# Altium integrated library TI Power Management Lighting and Display.IntLib: 745 symbols (part 28 of 48)
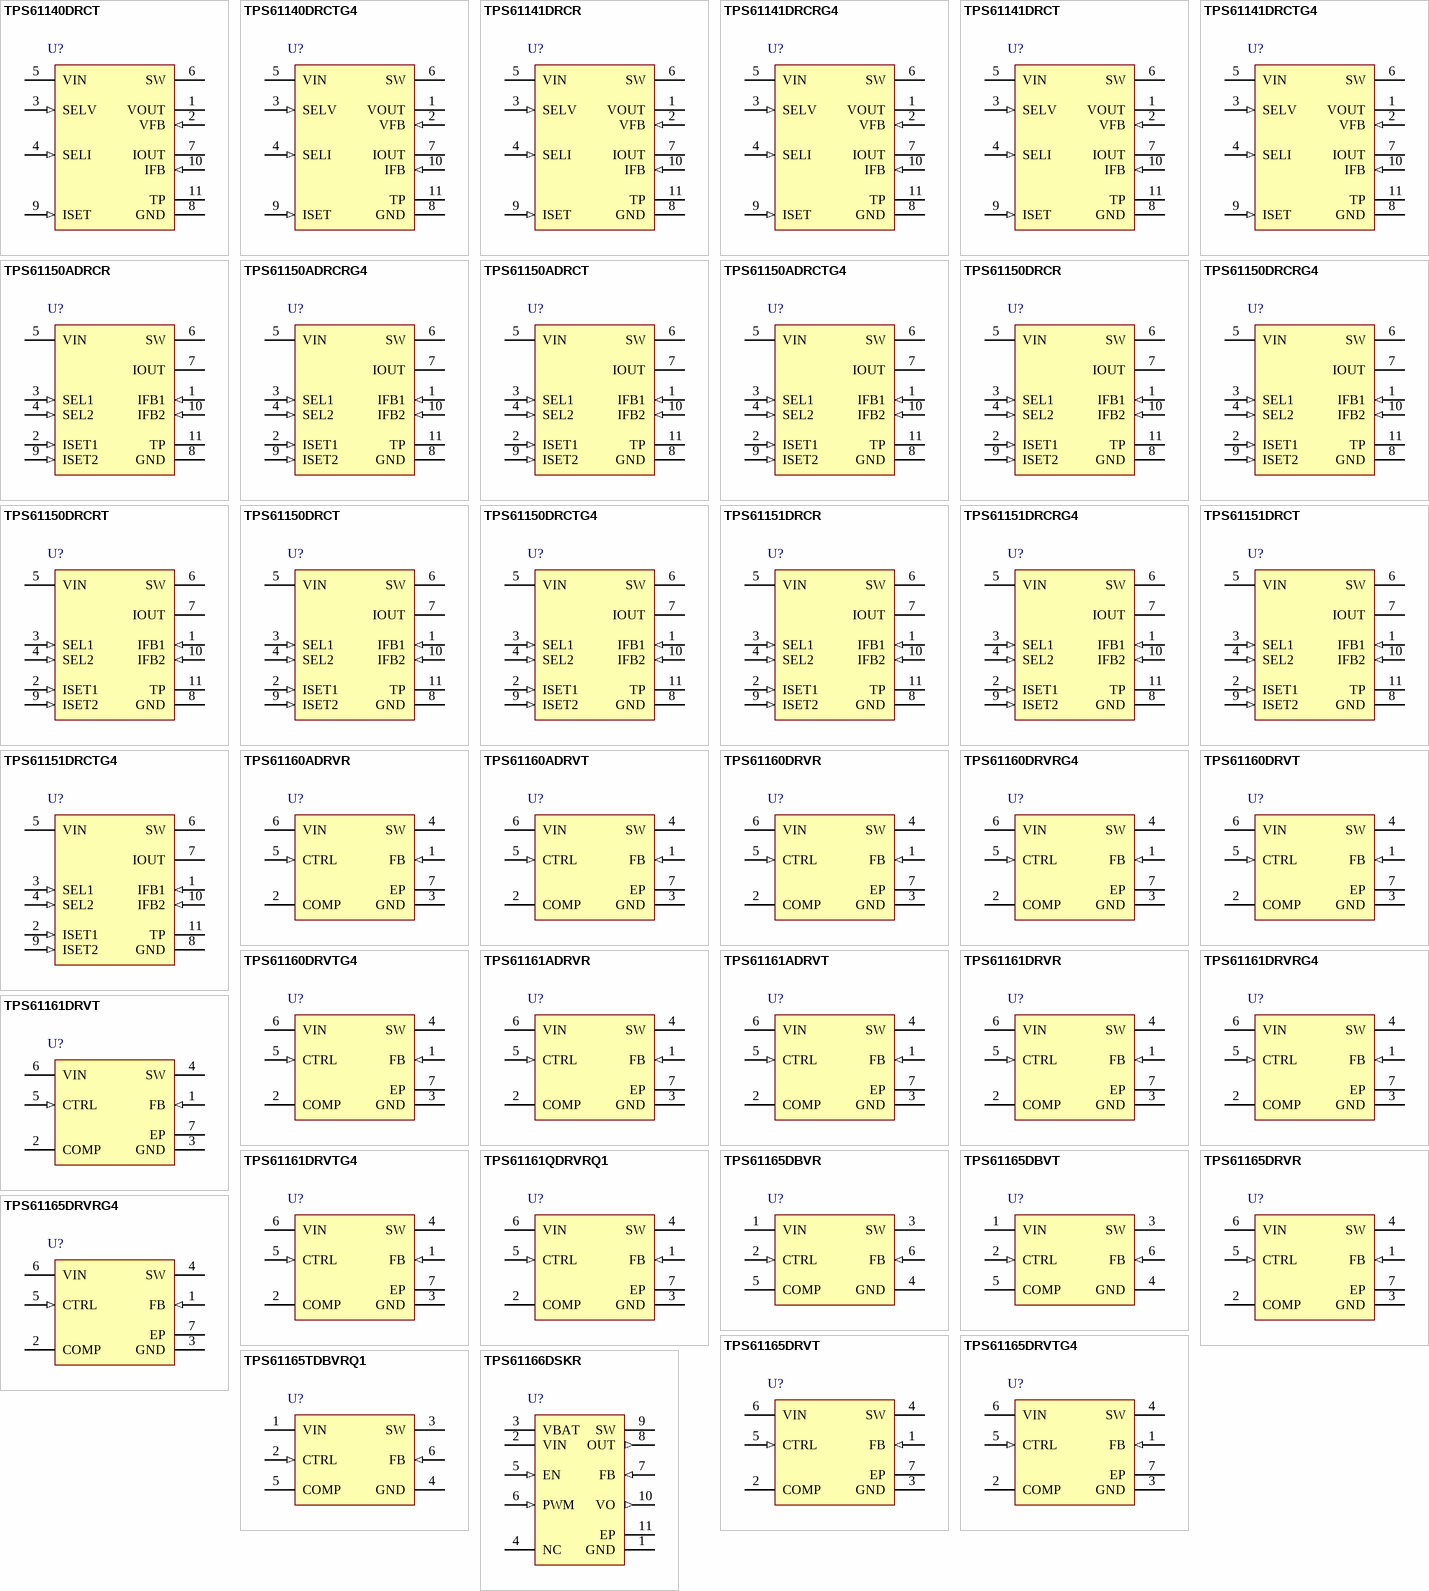
[diagram p58: symbols TPS61140DRCT to TPS61166DSKR]

## TPS61150DRCRT
designator U?
Dual Output Boost Regulator with Single Inductor, 2.5 to 6 V, -40 to 85 degC, 10-pin SON (DRC10); Manufacturer: Texas Instruments; PartNumber: TPS61150DRCRT; Iout(Max)(A): 0.035; Iq(Typ)(mA): 2; Rating: Catalog; SubFamily: White LED Driver; Switching Frequency(Max)(kHz): 1200; Synchronous Rectification: TRUE; Vin(Max)(V): 6; Vin(Min)(V): 2.5; DatasheetVersion: SLVS625D; PackageVersion: 4204102-3/L; PackageReference: DRC10-2400X1650TP; PackageDescription: 10-Pin Plastic Small Outline, Body 3 x 3 mm, Pitch 0.5 mm; Supplier 1: Mouser; Supplier Part Number 1: N/A; Topology: Boost; Mounting Technology: Surface Mount; ComponentLink1Description: Manufacturer URL; ComponentLink1URL: http://www.ti.com/; ComponentLink2Description: Datasheet; ComponentLink2URL: http://www.ti.com/general/docs/lit/getliterature.tsp?genericPartNumber=TPS61150&fileType=pdf; ComponentLink3Description: Package Specification; ComponentLink3URL: http://www.ti.com/litv/pdf/mpds117k
footprint TI-DRC10-2400X1650TP_V (SON, 10-Leads, Body 3x3mm, Pitch 0.5mm, Thermal Pad 3x1.65mm)
pins: 1 IFB1 (in) "The return path for the Iout regulation. Current regulator is connected to this pin, and it can be disabled to open the current path.", 2 ISET1 (in) "Output current programming pin. The resistor connected to the pin programs its corresponding output current.", 3 SEL1 (in) "Mode selection pins. See Table 1 for details.", 4 SEL2 (in) "Mode selection pins. See Table 1 for details.", 5 VIN (power) "The input pin to the IC. It provides the current to the boost power stage, and also powers the IC circuit. When Vin is below the undervoltage lockout threshold, the IC turns off and disables outputs; thereby disconnecting (See Datasheet)", 6 SW (power) "This is the switching node of the IC.", 7 IOUT (power) "The output of the constant current supply. It is directly connected to the boost converter output.", 8 GND (power) "The ground of the IC. Connect the input and output capacitors very close to this pin.", 9 ISET2 (in) "Output current programming pin. The resistor connected to the pin programs its corresponding output current.", 10 IFB2 (in) "The return path for the Iout regulation. Current regulator is connected to this pin, and it can be disabled to open the current path.", 11 TP (power) "The thermal pad should be soldered to the analog ground. If possible, use thermal via to connect to ground plane for ideal power dissipation."

## TPS61150DRCT
designator U?
Dual Output Boost Regulator with Single Inductor, 2.5 to 6 V, -40 to 85 degC, 10-pin SON (DRC10), Green (RoHS & no Sb/Br); Manufacturer: Texas Instruments; PartNumber: TPS61150DRCT; Iout(Max)(A): 0.035; Iq(Typ)(mA): 2; Rating: Catalog; SubFamily: White LED Driver; Switching Frequency(Max)(kHz): 1200; Synchronous Rectification: TRUE; Vin(Max)(V): 6; Vin(Min)(V): 2.5; DatasheetVersion: SLVS625D; PackageVersion: 4204102-3/L; PackageReference: DRC10-2400X1650TP; PackageDescription: 10-Pin Plastic Small Outline, Body 3 x 3 mm, Pitch 0.5 mm; Supplier 1: Digi-Key; Supplier Part Number 1: TPS61150DRCT-ND; Supplier 2: Newark; Supplier Part Number 2: 80K6170; Supplier 3: Mouser; Supplier Part Number 3: 595-TPS61150DRCT; Eco-Plan: Green (RoHS & no Sb/Br); Topology: Boost; Mounting Technology: Surface Mount; ComponentLink1Description: Manufacturer URL; ComponentLink1URL: http://www.ti.com/; ComponentLink2Description: Datasheet; ComponentLink2URL: http://www.ti.com/general/docs/lit/getliterature.tsp?genericPartNumber=TPS61150&fileType=pdf; ComponentLink3Description: Package Specification; ComponentLink3URL: http://www.ti.com/litv/pdf/mpds117k
footprint TI-DRC10-2400X1650TP_V (SON, 10-Leads, Body 3x3mm, Pitch 0.5mm, Thermal Pad 3x1.65mm)
pins: 1 IFB1 (in) "The return path for the Iout regulation. Current regulator is connected to this pin, and it can be disabled to open the current path.", 2 ISET1 (in) "Output current programming pin. The resistor connected to the pin programs its corresponding output current.", 3 SEL1 (in) "Mode selection pins. See Table 1 for details.", 4 SEL2 (in) "Mode selection pins. See Table 1 for details.", 5 VIN (power) "The input pin to the IC. It provides the current to the boost power stage, and also powers the IC circuit. When Vin is below the undervoltage lockout threshold, the IC turns off and disables outputs; thereby disconnecting (See Datasheet)", 6 SW (power) "This is the switching node of the IC.", 7 IOUT (power) "The output of the constant current supply. It is directly connected to the boost converter output.", 8 GND (power) "The ground of the IC. Connect the input and output capacitors very close to this pin.", 9 ISET2 (in) "Output current programming pin. The resistor connected to the pin programs its corresponding output current.", 10 IFB2 (in) "The return path for the Iout regulation. Current regulator is connected to this pin, and it can be disabled to open the current path.", 11 TP (power) "The thermal pad should be soldered to the analog ground. If possible, use thermal via to connect to ground plane for ideal power dissipation."

## TPS61150DRCTG4
designator U?
Dual Output Boost Regulator with Single Inductor, 2.5 to 6 V, -40 to 85 degC, 10-pin SON (DRC10), Green (RoHS & no Sb/Br); Manufacturer: Texas Instruments; PartNumber: TPS61150DRCTG4; Iout(Max)(A): 0.035; Iq(Typ)(mA): 2; Rating: Catalog; SubFamily: White LED Driver; Switching Frequency(Max)(kHz): 1200; Synchronous Rectification: TRUE; Vin(Max)(V): 6; Vin(Min)(V): 2.5; DatasheetVersion: SLVS625D; PackageVersion: 4204102-3/L; PackageReference: DRC10-2400X1650TP; PackageDescription: 10-Pin Plastic Small Outline, Body 3 x 3 mm, Pitch 0.5 mm; Supplier 1: Digi-Key; Supplier Part Number 1: TPS61150DRCTG4-ND; Supplier 2: Mouser; Supplier Part Number 2: 595-TPS61150DRCTG4; Eco-Plan: Green (RoHS & no Sb/Br); Topology: Boost; Mounting Technology: Surface Mount; ComponentLink1Description: Manufacturer URL; ComponentLink1URL: http://www.ti.com/; ComponentLink2Description: Datasheet; ComponentLink2URL: http://www.ti.com/general/docs/lit/getliterature.tsp?genericPartNumber=TPS61150&fileType=pdf; ComponentLink3Description: Package Specification; ComponentLink3URL: http://www.ti.com/litv/pdf/mpds117k
footprint TI-DRC10-2400X1650TP_V (SON, 10-Leads, Body 3x3mm, Pitch 0.5mm, Thermal Pad 3x1.65mm)
pins: 1 IFB1 (in) "The return path for the Iout regulation. Current regulator is connected to this pin, and it can be disabled to open the current path.", 2 ISET1 (in) "Output current programming pin. The resistor connected to the pin programs its corresponding output current.", 3 SEL1 (in) "Mode selection pins. See Table 1 for details.", 4 SEL2 (in) "Mode selection pins. See Table 1 for details.", 5 VIN (power) "The input pin to the IC. It provides the current to the boost power stage, and also powers the IC circuit. When Vin is below the undervoltage lockout threshold, the IC turns off and disables outputs; thereby disconnecting (See Datasheet)", 6 SW (power) "This is the switching node of the IC.", 7 IOUT (power) "The output of the constant current supply. It is directly connected to the boost converter output.", 8 GND (power) "The ground of the IC. Connect the input and output capacitors very close to this pin.", 9 ISET2 (in) "Output current programming pin. The resistor connected to the pin programs its corresponding output current.", 10 IFB2 (in) "The return path for the Iout regulation. Current regulator is connected to this pin, and it can be disabled to open the current path.", 11 TP (power) "The thermal pad should be soldered to the analog ground. If possible, use thermal via to connect to ground plane for ideal power dissipation."

## TPS61151DRCR
designator U?
Dual Output Boost Regulator with Single Inductor, 2.5 to 6 V, -40 to 85 degC, 10-pin SON (DRC10), Green (RoHS & no Sb/Br); Manufacturer: Texas Instruments; PartNumber: TPS61151DRCR; Iout(Max)(A): 0.035; Iq(Typ)(mA): 2; Rating: Catalog; SubFamily: White LED Driver; Switching Frequency(Max)(kHz): 1200; Synchronous Rectification: TRUE; Vin(Max)(V): 6; Vin(Min)(V): 3; DatasheetVersion: SLVS625D; PackageVersion: 4204102-3/L; PackageReference: DRC10-2400X1650TP; PackageDescription: 10-Pin Plastic Small Outline, Body 3 x 3 mm, Pitch 0.5 mm; Supplier 1: Digi-Key; Supplier Part Number 1: 296-21162-2-ND; Supplier 2: Digi-Key; Supplier Part Number 2: 296-21162-1-ND; Supplier 3: Digi-Key; Supplier Part Number 3: 296-21162-6-ND; Supplier 4: Mouser; Supplier Part Number 4: 595-TPS61151DRCR; Eco-Plan: Green (RoHS & no Sb/Br); Topology: Boost; Mounting Technology: Surface Mount; ComponentLink1Description: Manufacturer URL; ComponentLink1URL: http://www.ti.com/; ComponentLink2Description: Datasheet; ComponentLink2URL: http://www.ti.com/general/docs/lit/getliterature.tsp?genericPartNumber=TPS61151&fileType=pdf; ComponentLink3Description: Package Specification; ComponentLink3URL: http://www.ti.com/litv/pdf/mpds117k
footprint TI-DRC10-2400X1650TP_V (SON, 10-Leads, Body 3x3mm, Pitch 0.5mm, Thermal Pad 3x1.65mm)
pins: 1 IFB1 (in) "The return path for the Iout regulation. Current regulator is connected to this pin, and it can be disabled to open the current path.", 2 ISET1 (in) "Output current programming pin. The resistor connected to the pin programs its corresponding output current.", 3 SEL1 (in) "Mode selection pins. See Table 1 for details.", 4 SEL2 (in) "Mode selection pins. See Table 1 for details.", 5 VIN (power) "The input pin to the IC. It provides the current to the boost power stage, and also powers the IC circuit. When Vin is below the undervoltage lockout threshold, the IC turns off and disables outputs; thereby disconnecting (See Datasheet)", 6 SW (power) "This is the switching node of the IC.", 7 IOUT (power) "The output of the constant current supply. It is directly connected to the boost converter output.", 8 GND (power) "The ground of the IC. Connect the input and output capacitors very close to this pin.", 9 ISET2 (in) "Output current programming pin. The resistor connected to the pin programs its corresponding output current.", 10 IFB2 (in) "The return path for the Iout regulation. Current regulator is connected to this pin, and it can be disabled to open the current path.", 11 TP (power) "The thermal pad should be soldered to the analog ground. If possible, use thermal via to connect to ground plane for ideal power dissipation."

## TPS61151DRCRG4
designator U?
Dual Output Boost Regulator with Single Inductor, 2.5 to 6 V, -40 to 85 degC, 10-pin SON (DRC10), Green (RoHS & no Sb/Br); Manufacturer: Texas Instruments; PartNumber: TPS61151DRCRG4; Iout(Max)(A): 0.035; Iq(Typ)(mA): 2; Rating: Catalog; SubFamily: White LED Driver; Switching Frequency(Max)(kHz): 1200; Synchronous Rectification: TRUE; Vin(Max)(V): 6; Vin(Min)(V): 3; DatasheetVersion: SLVS625D; PackageVersion: 4204102-3/L; PackageReference: DRC10-2400X1650TP; PackageDescription: 10-Pin Plastic Small Outline, Body 3 x 3 mm, Pitch 0.5 mm; Supplier 1: Digi-Key; Supplier Part Number 1: TPS61151DRCRG4-ND; Supplier 2: Mouser; Supplier Part Number 2: 595-TPS61151DRCRG4; Eco-Plan: Green (RoHS & no Sb/Br); Topology: Boost; Mounting Technology: Surface Mount; ComponentLink1Description: Manufacturer URL; ComponentLink1URL: http://www.ti.com/; ComponentLink2Description: Datasheet; ComponentLink2URL: http://www.ti.com/general/docs/lit/getliterature.tsp?genericPartNumber=TPS61151&fileType=pdf; ComponentLink3Description: Package Specification; ComponentLink3URL: http://www.ti.com/litv/pdf/mpds117k
footprint TI-DRC10-2400X1650TP_V (SON, 10-Leads, Body 3x3mm, Pitch 0.5mm, Thermal Pad 3x1.65mm)
pins: 1 IFB1 (in) "The return path for the Iout regulation. Current regulator is connected to this pin, and it can be disabled to open the current path.", 2 ISET1 (in) "Output current programming pin. The resistor connected to the pin programs its corresponding output current.", 3 SEL1 (in) "Mode selection pins. See Table 1 for details.", 4 SEL2 (in) "Mode selection pins. See Table 1 for details.", 5 VIN (power) "The input pin to the IC. It provides the current to the boost power stage, and also powers the IC circuit. When Vin is below the undervoltage lockout threshold, the IC turns off and disables outputs; thereby disconnecting (See Datasheet)", 6 SW (power) "This is the switching node of the IC.", 7 IOUT (power) "The output of the constant current supply. It is directly connected to the boost converter output.", 8 GND (power) "The ground of the IC. Connect the input and output capacitors very close to this pin.", 9 ISET2 (in) "Output current programming pin. The resistor connected to the pin programs its corresponding output current.", 10 IFB2 (in) "The return path for the Iout regulation. Current regulator is connected to this pin, and it can be disabled to open the current path.", 11 TP (power) "The thermal pad should be soldered to the analog ground. If possible, use thermal via to connect to ground plane for ideal power dissipation."

## TPS61151DRCT
designator U?
Dual Output Boost Regulator with Single Inductor, 2.5 to 6 V, -40 to 85 degC, 10-pin SON (DRC10), Green (RoHS & no Sb/Br); Manufacturer: Texas Instruments; PartNumber: TPS61151DRCT; Iout(Max)(A): 0.035; Iq(Typ)(mA): 2; Rating: Catalog; SubFamily: White LED Driver; Switching Frequency(Max)(kHz): 1200; Synchronous Rectification: TRUE; Vin(Max)(V): 6; Vin(Min)(V): 3; DatasheetVersion: SLVS625D; PackageVersion: 4204102-3/L; PackageReference: DRC10-2400X1650TP; PackageDescription: 10-Pin Plastic Small Outline, Body 3 x 3 mm, Pitch 0.5 mm; Supplier 1: Digi-Key; Supplier Part Number 1: TPS61151DRCT-ND; Supplier 2: Newark; Supplier Part Number 2: 80K3416; Supplier 3: Mouser; Supplier Part Number 3: 595-TPS61151DRCT; Eco-Plan: Green (RoHS & no Sb/Br); Topology: Boost; Mounting Technology: Surface Mount; ComponentLink1Description: Manufacturer URL; ComponentLink1URL: http://www.ti.com/; ComponentLink2Description: Datasheet; ComponentLink2URL: http://www.ti.com/general/docs/lit/getliterature.tsp?genericPartNumber=TPS61151&fileType=pdf; ComponentLink3Description: Package Specification; ComponentLink3URL: http://www.ti.com/litv/pdf/mpds117k
footprint TI-DRC10-2400X1650TP_V (SON, 10-Leads, Body 3x3mm, Pitch 0.5mm, Thermal Pad 3x1.65mm)
pins: 1 IFB1 (in) "The return path for the Iout regulation. Current regulator is connected to this pin, and it can be disabled to open the current path.", 2 ISET1 (in) "Output current programming pin. The resistor connected to the pin programs its corresponding output current.", 3 SEL1 (in) "Mode selection pins. See Table 1 for details.", 4 SEL2 (in) "Mode selection pins. See Table 1 for details.", 5 VIN (power) "The input pin to the IC. It provides the current to the boost power stage, and also powers the IC circuit. When Vin is below the undervoltage lockout threshold, the IC turns off and disables outputs; thereby disconnecting (See Datasheet)", 6 SW (power) "This is the switching node of the IC.", 7 IOUT (power) "The output of the constant current supply. It is directly connected to the boost converter output.", 8 GND (power) "The ground of the IC. Connect the input and output capacitors very close to this pin.", 9 ISET2 (in) "Output current programming pin. The resistor connected to the pin programs its corresponding output current.", 10 IFB2 (in) "The return path for the Iout regulation. Current regulator is connected to this pin, and it can be disabled to open the current path.", 11 TP (power) "The thermal pad should be soldered to the analog ground. If possible, use thermal via to connect to ground plane for ideal power dissipation."

## TPS61151DRCTG4
designator U?
Dual Output Boost Regulator with Single Inductor, 2.5 to 6 V, -40 to 85 degC, 10-pin SON (DRC10), Green (RoHS & no Sb/Br); Manufacturer: Texas Instruments; PartNumber: TPS61151DRCTG4; Iout(Max)(A): 0.035; Iq(Typ)(mA): 2; Rating: Catalog; SubFamily: White LED Driver; Switching Frequency(Max)(kHz): 1200; Synchronous Rectification: TRUE; Vin(Max)(V): 6; Vin(Min)(V): 3; DatasheetVersion: SLVS625D; PackageVersion: 4204102-3/L; PackageReference: DRC10-2400X1650TP; PackageDescription: 10-Pin Plastic Small Outline, Body 3 x 3 mm, Pitch 0.5 mm; Supplier 1: Digi-Key; Supplier Part Number 1: TPS61151DRCTG4-ND; Supplier 2: Mouser; Supplier Part Number 2: 595-TPS61151DRCTG4; Eco-Plan: Green (RoHS & no Sb/Br); Topology: Boost; Mounting Technology: Surface Mount; ComponentLink1Description: Manufacturer URL; ComponentLink1URL: http://www.ti.com/; ComponentLink2Description: Datasheet; ComponentLink2URL: http://www.ti.com/general/docs/lit/getliterature.tsp?genericPartNumber=TPS61151&fileType=pdf; ComponentLink3Description: Package Specification; ComponentLink3URL: http://www.ti.com/litv/pdf/mpds117k
footprint TI-DRC10-2400X1650TP_V (SON, 10-Leads, Body 3x3mm, Pitch 0.5mm, Thermal Pad 3x1.65mm)
pins: 1 IFB1 (in) "The return path for the Iout regulation. Current regulator is connected to this pin, and it can be disabled to open the current path.", 2 ISET1 (in) "Output current programming pin. The resistor connected to the pin programs its corresponding output current.", 3 SEL1 (in) "Mode selection pins. See Table 1 for details.", 4 SEL2 (in) "Mode selection pins. See Table 1 for details.", 5 VIN (power) "The input pin to the IC. It provides the current to the boost power stage, and also powers the IC circuit. When Vin is below the undervoltage lockout threshold, the IC turns off and disables outputs; thereby disconnecting (See Datasheet)", 6 SW (power) "This is the switching node of the IC.", 7 IOUT (power) "The output of the constant current supply. It is directly connected to the boost converter output.", 8 GND (power) "The ground of the IC. Connect the input and output capacitors very close to this pin.", 9 ISET2 (in) "Output current programming pin. The resistor connected to the pin programs its corresponding output current.", 10 IFB2 (in) "The return path for the Iout regulation. Current regulator is connected to this pin, and it can be disabled to open the current path.", 11 TP (power) "The thermal pad should be soldered to the analog ground. If possible, use thermal via to connect to ground plane for ideal power dissipation."

## TPS61160ADRVR
designator U?
White LED Driver with PWM Brightness Control, 2.7 to 18 V, -40 to 85 degC, 6-pin SON (DRV6), Green (RoHS & no Sb/Br); Manufacturer: Texas Instruments; PartNumber: TPS61160ADRVR; Dimming: TRUE; Iq(Typ)(mA): 1.5; Rating: Catalog; Switching Frequency(Max)(kHz): 600; Topology: Boost; Vin(Max)(V): 18; Vin(Min)(V): 2.7; DatasheetVersion: SLVS937A; PackageVersion: 4206925/E; PackageReference: DRV6-1600X1000TP; PackageDescription: 6-Pin Plastic Small Outline No-Lead, Body 2 x 2 mm, Pitch 0.65 mm; Supplier 1: Digi-Key; Supplier Part Number 1: 296-24308-2-ND; Supplier 2: Digi-Key; Supplier Part Number 2: 296-24308-1-ND; Supplier 3: Digi-Key; Supplier Part Number 3: 296-24308-6-ND; Supplier 4: Newark; Supplier Part Number 4: 09R6662; Supplier 5: Mouser; Supplier Part Number 5: 595-TPS61160ADRVR; Eco-Plan: Green (RoHS & no Sb/Br); SubFamily: White LED Driver; Synchronous Rectification: TRUE; Mounting Technology: Surface Mount; ComponentLink1Description: Manufacturer URL; ComponentLink1URL: http://www.ti.com/; ComponentLink2Description: Datasheet; ComponentLink2URL: http://www.ti.com/general/docs/lit/getliterature.tsp?genericPartNumber=TPS61160A&fileType=pdf; ComponentLink3Description: Package Specification; ComponentLink3URL: http://www.ti.com/litv/pdf/mpds216d
footprint TI-DRV6-1600X1000TP_V (SON, 6-Leads, Body 2x2mm, Pitch 0.65mm, Thermal Pad 1X1.6mm)
pins: 1 FB (in) "Feedback pin for current. Connect the sense resistor from FB to GND.", 2 COMP "Output of the transconductance error amplifier. Connect an external capacitor to this pin to compensate the regulator.", 3 GND (power) "Ground", 4 SW (power) "This is the switching node of the IC. Connect the inductor between the VIN and SW pin. This pin is also used to sense the output voltage for open LED protection", 5 CTRL (in) "Control pin of the boost regulator. Enable and disable IC. PWM signal can be applied to the pin for LED brightness dimming as well.", 6 VIN (power) "The input supply pin for the IC. Connect VIN to a supply voltage between 2.7V and 18V.", 7 EP (power) "The thermal pad should be soldered to the analog ground plane. If possible, use thermal via to connect to ground plane for ideal power dissipation."

## TPS61160ADRVT
designator U?
White LED Driver with PWM Brightness Control, 2.7 to 18 V, -40 to 85 degC, 6-pin SON (DRV6), Green (RoHS & no Sb/Br); Manufacturer: Texas Instruments; PartNumber: TPS61160ADRVT; Dimming: TRUE; Iq(Typ)(mA): 1.5; Rating: Catalog; Switching Frequency(Max)(kHz): 600; Topology: Boost; Vin(Max)(V): 18; Vin(Min)(V): 2.7; DatasheetVersion: SLVS937A; PackageVersion: 4206925/E; PackageReference: DRV6-1600X1000TP; PackageDescription: 6-Pin Plastic Small Outline No-Lead, Body 2 x 2 mm, Pitch 0.65 mm; Supplier 1: Digi-Key; Supplier Part Number 1: 296-32500-2-ND; Supplier 2: Digi-Key; Supplier Part Number 2: 296-32500-1-ND; Supplier 3: Digi-Key; Supplier Part Number 3: 296-32500-6-ND; Supplier 4: Farnell; Supplier Part Number 4: 1735593; Supplier 5: Farnell; Supplier Part Number 5: 1735593RL; Supplier 6: Newark; Supplier Part Number 6: 05R5228; Supplier 7: Mouser; Supplier Part Number 7: 595-TPS61160ADRVT; Eco-Plan: Green (RoHS & no Sb/Br); SubFamily: White LED Driver; Synchronous Rectification: TRUE; Mounting Technology: Surface Mount; ComponentLink1Description: Manufacturer URL; ComponentLink1URL: http://www.ti.com/; ComponentLink2Description: Datasheet; ComponentLink2URL: http://www.ti.com/general/docs/lit/getliterature.tsp?genericPartNumber=TPS61160A&fileType=pdf; ComponentLink3Description: Package Specification; ComponentLink3URL: http://www.ti.com/litv/pdf/mpds216d
footprint TI-DRV6-1600X1000TP_V (SON, 6-Leads, Body 2x2mm, Pitch 0.65mm, Thermal Pad 1X1.6mm)
pins: 1 FB (in) "Feedback pin for current. Connect the sense resistor from FB to GND.", 2 COMP "Output of the transconductance error amplifier. Connect an external capacitor to this pin to compensate the regulator.", 3 GND (power) "Ground", 4 SW (power) "This is the switching node of the IC. Connect the inductor between the VIN and SW pin. This pin is also used to sense the output voltage for open LED protection", 5 CTRL (in) "Control pin of the boost regulator. Enable and disable IC. PWM signal can be applied to the pin for LED brightness dimming as well.", 6 VIN (power) "The input supply pin for the IC. Connect VIN to a supply voltage between 2.7V and 18V.", 7 EP (power) "The thermal pad should be soldered to the analog ground plane. If possible, use thermal via to connect to ground plane for ideal power dissipation."

## TPS61160DRVR
designator U?
White LED Driver with Digital and PWM Brightness Control, 2.7 to 18 V, -40 to 85 degC, 6-pin SON (DRV6), Green (RoHS & no Sb/Br); Manufacturer: Texas Instruments; PartNumber: TPS61160DRVR; Dimming: TRUE; Iq(Typ)(mA): 1.5; Rating: Catalog; Switching Frequency(Max)(kHz): 600; Topology: Boost; Vin(Max)(V): 18; Vin(Min)(V): 2.7; DatasheetVersion: SLVS791C; PackageVersion: 4206925/E; PackageReference: DRV6-1600X1000TP; PackageDescription: 6-Pin Plastic Small Outline No-Lead, Body 2 x 2 mm, Pitch 0.65 mm; Supplier 1: Digi-Key; Supplier Part Number 1: 296-22942-2-ND; Supplier 2: Digi-Key; Supplier Part Number 2: 296-22942-1-ND; Supplier 3: Digi-Key; Supplier Part Number 3: 296-22942-6-ND; Supplier 4: Newark; Supplier Part Number 4: 65M6335; Supplier 5: Mouser; Supplier Part Number 5: 595-TPS61160DRVR; Eco-Plan: Green (RoHS & no Sb/Br); SubFamily: White LED Driver; Synchronous Rectification: TRUE; Mounting Technology: Surface Mount; ComponentLink1Description: Manufacturer URL; ComponentLink1URL: http://www.ti.com/; ComponentLink2Description: Datasheet; ComponentLink2URL: http://www.ti.com/general/docs/lit/getliterature.tsp?genericPartNumber=TPS61160&fileType=pdf; ComponentLink3Description: Package Specification; ComponentLink3URL: http://www.ti.com/litv/pdf/mpds216d
footprint TI-DRV6-1600X1000TP_V (SON, 6-Leads, Body 2x2mm, Pitch 0.65mm, Thermal Pad 1X1.6mm)
pins: 1 FB (in) "Feedback pin for current. Connect the sense resistor from FB to GND.", 2 COMP "Output of the transconductance error amplifier. Connect an external capacitor to this pin to compensate the regulator.", 3 GND (power) "Ground", 4 SW (power) "This is the switching node of the IC. Connect the inductor between the VIN and SW pin. This pin is also used to sense the output voltage for open LED protection", 5 CTRL (in) "Control pin of the boost regulator. Enable and disable IC. PWM signal can be applied to the pin for LED brightness dimming as well.", 6 VIN (power) "The input supply pin for the IC. Connect VIN to a supply voltage between 2.7V and 18V.", 7 EP (power) "The thermal pad should be soldered to the analog ground plane. If possible, use thermal via to connect to ground plane for ideal power dissipation."

## TPS61160DRVRG4
designator U?
White LED Driver with Digital and PWM Brightness Control, 2.7 to 18 V, -40 to 85 degC, 6-pin SON (DRV6), Green (RoHS & no Sb/Br); Manufacturer: Texas Instruments; PartNumber: TPS61160DRVRG4; Dimming: TRUE; Iq(Typ)(mA): 1.5; Rating: Catalog; Switching Frequency(Max)(kHz): 600; Topology: Boost; Vin(Max)(V): 18; Vin(Min)(V): 2.7; DatasheetVersion: SLVS791C; PackageVersion: 4206925/E; PackageReference: DRV6-1600X1000TP; PackageDescription: 6-Pin Plastic Small Outline No-Lead, Body 2 x 2 mm, Pitch 0.65 mm; Supplier 1: Digi-Key; Supplier Part Number 1: TPS61160DRVRG4-ND; Supplier 2: Mouser; Supplier Part Number 2: 595-TPS61160DRVRG4; Eco-Plan: Green (RoHS & no Sb/Br); SubFamily: White LED Driver; Synchronous Rectification: TRUE; Mounting Technology: Surface Mount; ComponentLink1Description: Manufacturer URL; ComponentLink1URL: http://www.ti.com/; ComponentLink2Description: Datasheet; ComponentLink2URL: http://www.ti.com/general/docs/lit/getliterature.tsp?genericPartNumber=TPS61160&fileType=pdf; ComponentLink3Description: Package Specification; ComponentLink3URL: http://www.ti.com/litv/pdf/mpds216d
footprint TI-DRV6-1600X1000TP_V (SON, 6-Leads, Body 2x2mm, Pitch 0.65mm, Thermal Pad 1X1.6mm)
pins: 1 FB (in) "Feedback pin for current. Connect the sense resistor from FB to GND.", 2 COMP "Output of the transconductance error amplifier. Connect an external capacitor to this pin to compensate the regulator.", 3 GND (power) "Ground", 4 SW (power) "This is the switching node of the IC. Connect the inductor between the VIN and SW pin. This pin is also used to sense the output voltage for open LED protection", 5 CTRL (in) "Control pin of the boost regulator. Enable and disable IC. PWM signal can be applied to the pin for LED brightness dimming as well.", 6 VIN (power) "The input supply pin for the IC. Connect VIN to a supply voltage between 2.7V and 18V.", 7 EP (power) "The thermal pad should be soldered to the analog ground plane. If possible, use thermal via to connect to ground plane for ideal power dissipation."

## TPS61160DRVT
designator U?
White LED Driver with Digital and PWM Brightness Control, 2.7 to 18 V, -40 to 85 degC, 6-pin SON (DRV6), Green (RoHS & no Sb/Br); Manufacturer: Texas Instruments; PartNumber: TPS61160DRVT; Dimming: TRUE; Iq(Typ)(mA): 1.5; Rating: Catalog; Switching Frequency(Max)(kHz): 600; Topology: Boost; Vin(Max)(V): 18; Vin(Min)(V): 2.7; DatasheetVersion: SLVS791C; PackageVersion: 4206925/E; PackageReference: DRV6-1600X1000TP; PackageDescription: 6-Pin Plastic Small Outline No-Lead, Body 2 x 2 mm, Pitch 0.65 mm; Supplier 1: Digi-Key; Supplier Part Number 1: 296-27013-2-ND; Supplier 2: Digi-Key; Supplier Part Number 2: 296-27013-1-ND; Supplier 3: Digi-Key; Supplier Part Number 3: 296-27013-6-ND; Supplier 4: Farnell; Supplier Part Number 4: 1603420; Supplier 5: Farnell; Supplier Part Number 5: 1603420RL; Supplier 6: Newark; Supplier Part Number 6: 65M6336; Supplier 7: Mouser; Supplier Part Number 7: 595-TPS61160DRVT; Eco-Plan: Green (RoHS & no Sb/Br); SubFamily: White LED Driver; Synchronous Rectification: TRUE; Mounting Technology: Surface Mount; ComponentLink1Description: Manufacturer URL; ComponentLink1URL: http://www.ti.com/; ComponentLink2Description: Datasheet; ComponentLink2URL: http://www.ti.com/general/docs/lit/getliterature.tsp?genericPartNumber=TPS61160&fileType=pdf; ComponentLink3Description: Package Specification; ComponentLink3URL: http://www.ti.com/litv/pdf/mpds216d
footprint TI-DRV6-1600X1000TP_V (SON, 6-Leads, Body 2x2mm, Pitch 0.65mm, Thermal Pad 1X1.6mm)
pins: 1 FB (in) "Feedback pin for current. Connect the sense resistor from FB to GND.", 2 COMP "Output of the transconductance error amplifier. Connect an external capacitor to this pin to compensate the regulator.", 3 GND (power) "Ground", 4 SW (power) "This is the switching node of the IC. Connect the inductor between the VIN and SW pin. This pin is also used to sense the output voltage for open LED protection", 5 CTRL (in) "Control pin of the boost regulator. Enable and disable IC. PWM signal can be applied to the pin for LED brightness dimming as well.", 6 VIN (power) "The input supply pin for the IC. Connect VIN to a supply voltage between 2.7V and 18V.", 7 EP (power) "The thermal pad should be soldered to the analog ground plane. If possible, use thermal via to connect to ground plane for ideal power dissipation."

## TPS61160DRVTG4
designator U?
White LED Driver with Digital and PWM Brightness Control, 2.7 to 18 V, -40 to 85 degC, 6-pin SON (DRV6), Green (RoHS & no Sb/Br); Manufacturer: Texas Instruments; PartNumber: TPS61160DRVTG4; Dimming: TRUE; Iq(Typ)(mA): 1.5; Rating: Catalog; Switching Frequency(Max)(kHz): 600; Topology: Boost; Vin(Max)(V): 18; Vin(Min)(V): 2.7; DatasheetVersion: SLVS791C; PackageVersion: 4206925/E; PackageReference: DRV6-1600X1000TP; PackageDescription: 6-Pin Plastic Small Outline No-Lead, Body 2 x 2 mm, Pitch 0.65 mm; Supplier 1: Digi-Key; Supplier Part Number 1: TPS61160DRVTG4-ND; Supplier 2: Mouser; Supplier Part Number 2: 595-TPS61160DRVTG4; Eco-Plan: Green (RoHS & no Sb/Br); SubFamily: White LED Driver; Synchronous Rectification: TRUE; Mounting Technology: Surface Mount; ComponentLink1Description: Manufacturer URL; ComponentLink1URL: http://www.ti.com/; ComponentLink2Description: Datasheet; ComponentLink2URL: http://www.ti.com/general/docs/lit/getliterature.tsp?genericPartNumber=TPS61160&fileType=pdf; ComponentLink3Description: Package Specification; ComponentLink3URL: http://www.ti.com/litv/pdf/mpds216d
footprint TI-DRV6-1600X1000TP_V (SON, 6-Leads, Body 2x2mm, Pitch 0.65mm, Thermal Pad 1X1.6mm)
pins: 1 FB (in) "Feedback pin for current. Connect the sense resistor from FB to GND.", 2 COMP "Output of the transconductance error amplifier. Connect an external capacitor to this pin to compensate the regulator.", 3 GND (power) "Ground", 4 SW (power) "This is the switching node of the IC. Connect the inductor between the VIN and SW pin. This pin is also used to sense the output voltage for open LED protection", 5 CTRL (in) "Control pin of the boost regulator. Enable and disable IC. PWM signal can be applied to the pin for LED brightness dimming as well.", 6 VIN (power) "The input supply pin for the IC. Connect VIN to a supply voltage between 2.7V and 18V.", 7 EP (power) "The thermal pad should be soldered to the analog ground plane. If possible, use thermal via to connect to ground plane for ideal power dissipation."

## TPS61161ADRVR
designator U?
White LED Driver with PWM Brightness Control, 2.7 to 18 V, -40 to 85 degC, 6-pin SON (DRV6), Green (RoHS & no Sb/Br); Manufacturer: Texas Instruments; PartNumber: TPS61161ADRVR; Dimming: TRUE; Iq(Typ)(mA): 1.5; Rating: Catalog; Switching Frequency(Max)(kHz): 600; Topology: Boost; Vin(Max)(V): 18; Vin(Min)(V): 2.7; DatasheetVersion: SLVS937A; PackageVersion: 4206925/E; PackageReference: DRV6-1600X1000TP; PackageDescription: 6-Pin Plastic Small Outline No-Lead, Body 2 x 2 mm, Pitch 0.65 mm; Supplier 1: Digi-Key; Supplier Part Number 1: 296-24512-2-ND; Supplier 2: Digi-Key; Supplier Part Number 2: 296-24512-1-ND; Supplier 3: Digi-Key; Supplier Part Number 3: 296-24512-6-ND; Supplier 4: Newark; Supplier Part Number 4: 25R0112; Supplier 5: Mouser; Supplier Part Number 5: 595-TPS61161ADRVR; Eco-Plan: Green (RoHS & no Sb/Br); SubFamily: White LED Driver; Synchronous Rectification: TRUE; Mounting Technology: Surface Mount; ComponentLink1Description: Manufacturer URL; ComponentLink1URL: http://www.ti.com/; ComponentLink2Description: Datasheet; ComponentLink2URL: http://www.ti.com/general/docs/lit/getliterature.tsp?genericPartNumber=TPS61161A&fileType=pdf; ComponentLink3Description: Package Specification; ComponentLink3URL: http://www.ti.com/litv/pdf/mpds216d
footprint TI-DRV6-1600X1000TP_V (SON, 6-Leads, Body 2x2mm, Pitch 0.65mm, Thermal Pad 1X1.6mm)
pins: 1 FB (in) "Feedback pin for current. Connect the sense resistor from FB to GND.", 2 COMP "Output of the transconductance error amplifier. Connect an external capacitor to this pin to compensate the regulator.", 3 GND (power) "Ground", 4 SW (power) "This is the switching node of the IC. Connect the inductor between the VIN and SW pin. This pin is also used to sense the output voltage for open LED protection", 5 CTRL (in) "Control pin of the boost regulator. Enable and disable IC. PWM signal can be applied to the pin for LED brightness dimming as well.", 6 VIN (power) "The input supply pin for the IC. Connect VIN to a supply voltage between 2.7V and 18V.", 7 EP (power) "The thermal pad should be soldered to the analog ground plane. If possible, use thermal via to connect to ground plane for ideal power dissipation."

## TPS61161ADRVT
designator U?
White LED Driver with PWM Brightness Control, 2.7 to 18 V, -40 to 85 degC, 6-pin SON (DRV6), Green (RoHS & no Sb/Br); Manufacturer: Texas Instruments; PartNumber: TPS61161ADRVT; Dimming: TRUE; Iq(Typ)(mA): 1.5; Rating: Catalog; Switching Frequency(Max)(kHz): 600; Topology: Boost; Vin(Max)(V): 18; Vin(Min)(V): 2.7; DatasheetVersion: SLVS937A; PackageVersion: 4206925/E; PackageReference: DRV6-1600X1000TP; PackageDescription: 6-Pin Plastic Small Outline No-Lead, Body 2 x 2 mm, Pitch 0.65 mm; Supplier 1: Digi-Key; Supplier Part Number 1: 296-24542-2-ND; Supplier 2: Digi-Key; Supplier Part Number 2: 296-24542-1-ND; Supplier 3: Digi-Key; Supplier Part Number 3: 296-24542-6-ND; Supplier 4: Farnell; Supplier Part Number 4: 1735594; Supplier 5: Newark; Supplier Part Number 5: 10R0471; Supplier 6: Newark; Supplier Part Number 6: 24R7799; Supplier 7: Mouser; Supplier Part Number 7: 595-TPS61161ADRVT; Eco-Plan: Green (RoHS & no Sb/Br); SubFamily: White LED Driver; Synchronous Rectification: TRUE; Mounting Technology: Surface Mount; ComponentLink1Description: Manufacturer URL; ComponentLink1URL: http://www.ti.com/; ComponentLink2Description: Datasheet; ComponentLink2URL: http://www.ti.com/general/docs/lit/getliterature.tsp?genericPartNumber=TPS61161A&fileType=pdf; ComponentLink3Description: Package Specification; ComponentLink3URL: http://www.ti.com/litv/pdf/mpds216d
footprint TI-DRV6-1600X1000TP_V (SON, 6-Leads, Body 2x2mm, Pitch 0.65mm, Thermal Pad 1X1.6mm)
pins: 1 FB (in) "Feedback pin for current. Connect the sense resistor from FB to GND.", 2 COMP "Output of the transconductance error amplifier. Connect an external capacitor to this pin to compensate the regulator.", 3 GND (power) "Ground", 4 SW (power) "This is the switching node of the IC. Connect the inductor between the VIN and SW pin. This pin is also used to sense the output voltage for open LED protection", 5 CTRL (in) "Control pin of the boost regulator. Enable and disable IC. PWM signal can be applied to the pin for LED brightness dimming as well.", 6 VIN (power) "The input supply pin for the IC. Connect VIN to a supply voltage between 2.7V and 18V.", 7 EP (power) "The thermal pad should be soldered to the analog ground plane. If possible, use thermal via to connect to ground plane for ideal power dissipation."

## TPS61161DRVR
designator U?
White LED Driver with Digital and PWM Brightness Control, 2.7 to 18 V, -40 to 85 degC, 6-pin SON (DRV6), Green (RoHS & no Sb/Br); Manufacturer: Texas Instruments; PartNumber: TPS61161DRVR; Dimming: TRUE; Iq(Typ)(mA): 1.5; Rating: Catalog; Switching Frequency(Max)(kHz): 600; Topology: Boost; Vin(Max)(V): 18; Vin(Min)(V): 2.7; DatasheetVersion: SLVS791C; PackageVersion: 4206925/E; PackageReference: DRV6-1600X1000TP; PackageDescription: 6-Pin Plastic Small Outline No-Lead, Body 2 x 2 mm, Pitch 0.65 mm; Supplier 1: Digi-Key; Supplier Part Number 1: 296-22943-2-ND; Supplier 2: Digi-Key; Supplier Part Number 2: 296-22943-1-ND; Supplier 3: Digi-Key; Supplier Part Number 3: 296-22943-6-ND; Supplier 4: Newark; Supplier Part Number 4: 65M6337; Supplier 5: Mouser; Supplier Part Number 5: 595-TPS61161DRVR; Eco-Plan: Green (RoHS & no Sb/Br); SubFamily: White LED Driver; Synchronous Rectification: TRUE; Mounting Technology: Surface Mount; ComponentLink1Description: Manufacturer URL; ComponentLink1URL: http://www.ti.com/; ComponentLink2Description: Datasheet; ComponentLink2URL: http://www.ti.com/general/docs/lit/getliterature.tsp?genericPartNumber=TPS61161&fileType=pdf; ComponentLink3Description: Package Specification; ComponentLink3URL: http://www.ti.com/litv/pdf/mpds216d
footprint TI-DRV6-1600X1000TP_V (SON, 6-Leads, Body 2x2mm, Pitch 0.65mm, Thermal Pad 1X1.6mm)
pins: 1 FB (in) "Feedback pin for current. Connect the sense resistor from FB to GND.", 2 COMP "Output of the transconductance error amplifier. Connect an external capacitor to this pin to compensate the regulator.", 3 GND (power) "Ground", 4 SW (power) "This is the switching node of the IC. Connect the inductor between the VIN and SW pin. This pin is also used to sense the output voltage for open LED protection", 5 CTRL (in) "Control pin of the boost regulator. Enable and disable IC. PWM signal can be applied to the pin for LED brightness dimming as well.", 6 VIN (power) "The input supply pin for the IC. Connect VIN to a supply voltage between 2.7V and 18V.", 7 EP (power) "The thermal pad should be soldered to the analog ground plane. If possible, use thermal via to connect to ground plane for ideal power dissipation."

## TPS61161DRVRG4
designator U?
White LED Driver with Digital and PWM Brightness Control, 2.7 to 18 V, -40 to 85 degC, 6-pin SON (DRV6), Green (RoHS & no Sb/Br); Manufacturer: Texas Instruments; PartNumber: TPS61161DRVRG4; Dimming: TRUE; Iq(Typ)(mA): 1.5; Rating: Catalog; Switching Frequency(Max)(kHz): 600; Topology: Boost; Vin(Max)(V): 18; Vin(Min)(V): 2.7; DatasheetVersion: SLVS791C; PackageVersion: 4206925/E; PackageReference: DRV6-1600X1000TP; PackageDescription: 6-Pin Plastic Small Outline No-Lead, Body 2 x 2 mm, Pitch 0.65 mm; Supplier 1: Digi-Key; Supplier Part Number 1: TPS61161DRVRG4-ND; Supplier 2: Mouser; Supplier Part Number 2: 595-TPS61161DRVRG4; Eco-Plan: Green (RoHS & no Sb/Br); SubFamily: White LED Driver; Synchronous Rectification: TRUE; Mounting Technology: Surface Mount; ComponentLink1Description: Manufacturer URL; ComponentLink1URL: http://www.ti.com/; ComponentLink2Description: Datasheet; ComponentLink2URL: http://www.ti.com/general/docs/lit/getliterature.tsp?genericPartNumber=TPS61161&fileType=pdf; ComponentLink3Description: Package Specification; ComponentLink3URL: http://www.ti.com/litv/pdf/mpds216d
footprint TI-DRV6-1600X1000TP_V (SON, 6-Leads, Body 2x2mm, Pitch 0.65mm, Thermal Pad 1X1.6mm)
pins: 1 FB (in) "Feedback pin for current. Connect the sense resistor from FB to GND.", 2 COMP "Output of the transconductance error amplifier. Connect an external capacitor to this pin to compensate the regulator.", 3 GND (power) "Ground", 4 SW (power) "This is the switching node of the IC. Connect the inductor between the VIN and SW pin. This pin is also used to sense the output voltage for open LED protection", 5 CTRL (in) "Control pin of the boost regulator. Enable and disable IC. PWM signal can be applied to the pin for LED brightness dimming as well.", 6 VIN (power) "The input supply pin for the IC. Connect VIN to a supply voltage between 2.7V and 18V.", 7 EP (power) "The thermal pad should be soldered to the analog ground plane. If possible, use thermal via to connect to ground plane for ideal power dissipation."

## TPS61161DRVT
designator U?
White LED Driver with Digital and PWM Brightness Control, 2.7 to 18 V, -40 to 85 degC, 6-pin SON (DRV6), Green (RoHS & no Sb/Br); Manufacturer: Texas Instruments; PartNumber: TPS61161DRVT; Dimming: TRUE; Iq(Typ)(mA): 1.5; Rating: Catalog; Switching Frequency(Max)(kHz): 600; Topology: Boost; Vin(Max)(V): 18; Vin(Min)(V): 2.7; DatasheetVersion: SLVS791C; PackageVersion: 4206925/E; PackageReference: DRV6-1600X1000TP; PackageDescription: 6-Pin Plastic Small Outline No-Lead, Body 2 x 2 mm, Pitch 0.65 mm; Supplier 1: Digi-Key; Supplier Part Number 1: 296-27014-2-ND; Supplier 2: Digi-Key; Supplier Part Number 2: 296-27014-1-ND; Supplier 3: Digi-Key; Supplier Part Number 3: 296-27014-6-ND; Supplier 4: Farnell; Supplier Part Number 4: 1603421RL; Supplier 5: Farnell; Supplier Part Number 5: 1603421; Supplier 6: Newark; Supplier Part Number 6: 65M6338; Supplier 7: Mouser; Supplier Part Number 7: 595-TPS61161DRVT; Eco-Plan: Green (RoHS & no Sb/Br); SubFamily: White LED Driver; Synchronous Rectification: TRUE; Mounting Technology: Surface Mount; ComponentLink1Description: Manufacturer URL; ComponentLink1URL: http://www.ti.com/; ComponentLink2Description: Datasheet; ComponentLink2URL: http://www.ti.com/general/docs/lit/getliterature.tsp?genericPartNumber=TPS61161&fileType=pdf; ComponentLink3Description: Package Specification; ComponentLink3URL: http://www.ti.com/litv/pdf/mpds216d
footprint TI-DRV6-1600X1000TP_V (SON, 6-Leads, Body 2x2mm, Pitch 0.65mm, Thermal Pad 1X1.6mm)
pins: 1 FB (in) "Feedback pin for current. Connect the sense resistor from FB to GND.", 2 COMP "Output of the transconductance error amplifier. Connect an external capacitor to this pin to compensate the regulator.", 3 GND (power) "Ground", 4 SW (power) "This is the switching node of the IC. Connect the inductor between the VIN and SW pin. This pin is also used to sense the output voltage for open LED protection", 5 CTRL (in) "Control pin of the boost regulator. Enable and disable IC. PWM signal can be applied to the pin for LED brightness dimming as well.", 6 VIN (power) "The input supply pin for the IC. Connect VIN to a supply voltage between 2.7V and 18V.", 7 EP (power) "The thermal pad should be soldered to the analog ground plane. If possible, use thermal via to connect to ground plane for ideal power dissipation."

## TPS61161DRVTG4
designator U?
White LED Driver with Digital and PWM Brightness Control, 2.7 to 18 V, -40 to 85 degC, 6-pin SON (DRV6), Green (RoHS & no Sb/Br); Manufacturer: Texas Instruments; PartNumber: TPS61161DRVTG4; Dimming: TRUE; Iq(Typ)(mA): 1.5; Rating: Catalog; Switching Frequency(Max)(kHz): 600; Topology: Boost; Vin(Max)(V): 18; Vin(Min)(V): 2.7; DatasheetVersion: SLVS791C; PackageVersion: 4206925/E; PackageReference: DRV6-1600X1000TP; PackageDescription: 6-Pin Plastic Small Outline No-Lead, Body 2 x 2 mm, Pitch 0.65 mm; Supplier 1: Digi-Key; Supplier Part Number 1: TPS61161DRVTG4-ND; Supplier 2: Mouser; Supplier Part Number 2: 595-TPS61161DRVTG4; Eco-Plan: Green (RoHS & no Sb/Br); SubFamily: White LED Driver; Synchronous Rectification: TRUE; Mounting Technology: Surface Mount; ComponentLink1Description: Manufacturer URL; ComponentLink1URL: http://www.ti.com/; ComponentLink2Description: Datasheet; ComponentLink2URL: http://www.ti.com/general/docs/lit/getliterature.tsp?genericPartNumber=TPS61161&fileType=pdf; ComponentLink3Description: Package Specification; ComponentLink3URL: http://www.ti.com/litv/pdf/mpds216d
footprint TI-DRV6-1600X1000TP_V (SON, 6-Leads, Body 2x2mm, Pitch 0.65mm, Thermal Pad 1X1.6mm)
pins: 1 FB (in) "Feedback pin for current. Connect the sense resistor from FB to GND.", 2 COMP "Output of the transconductance error amplifier. Connect an external capacitor to this pin to compensate the regulator.", 3 GND (power) "Ground", 4 SW (power) "This is the switching node of the IC. Connect the inductor between the VIN and SW pin. This pin is also used to sense the output voltage for open LED protection", 5 CTRL (in) "Control pin of the boost regulator. Enable and disable IC. PWM signal can be applied to the pin for LED brightness dimming as well.", 6 VIN (power) "The input supply pin for the IC. Connect VIN to a supply voltage between 2.7V and 18V.", 7 EP (power) "The thermal pad should be soldered to the analog ground plane. If possible, use thermal via to connect to ground plane for ideal power dissipation."

## TPS61161QDRVRQ1
designator U?
Automotive Catalog White LED Driver with Digital and PWM Brightness Control, 2.7 to 18 V, -40 to 125 degC, 6-pin SON (DRV6), Green (RoHS & no Sb/Br); Manufacturer: Texas Instruments; PartNumber: TPS61161QDRVRQ1; Dimming: TRUE; Iq(Typ)(mA): 1.5; Switching Frequency(Max)(kHz): 600; Topology: Boost; Vin(Max)(V): 18; Vin(Min)(V): 2.7; DatasheetVersion: SLVSA18; PackageVersion: 4206925/E; PackageReference: DRV6-1600X1000TP; PackageDescription: 6-Pin Plastic Small Outline No-Lead, Body 2 x 2 mm, Pitch 0.65 mm; Supplier 1: Digi-Key; Supplier Part Number 1: 296-25235-2-ND; Supplier 2: Digi-Key; Supplier Part Number 2: 296-25235-1-ND; Supplier 3: Digi-Key; Supplier Part Number 3: 296-25235-6-ND; Supplier 4: Newark; Supplier Part Number 4: 55R7608; Supplier 5: Mouser; Supplier Part Number 5: 595-TPS61161QDRVRQ1; Eco-Plan: Green (RoHS & no Sb/Br); Rating: Automotive; SubFamily: White LED Driver; Synchronous Rectification: TRUE; Mounting Technology: Surface Mount; ComponentLink1Description: Manufacturer URL; ComponentLink1URL: http://www.ti.com/; ComponentLink2Description: Datasheet; ComponentLink2URL: http://www.ti.com/general/docs/lit/getliterature.tsp?genericPartNumber=TPS61161-Q1&fileType=pdf; ComponentLink3Description: Package Specification; ComponentLink3URL: http://www.ti.com/litv/pdf/mpds216d
footprint TI-DRV6-1600X1000TP_V (SON, 6-Leads, Body 2x2mm, Pitch 0.65mm, Thermal Pad 1X1.6mm)
pins: 1 FB (in) "Feedback pin for current. Connect the sense resistor from FB to GND.", 2 COMP "Output of the transconductance error amplifier. Connect an external capacitor to this pin to compensate the regulator.", 3 GND (power) "Ground", 4 SW (power) "This is the switching node of the IC. Connect the inductor between the VIN and SW pin. This pin is also used to sense the output voltage for open LED protection", 5 CTRL (in) "Control pin of the boost regulator. Enable and disable IC. PWM signal can be applied to the pin for LED brightness dimming as well.", 6 VIN (power) "The input supply pin for the IC. Connect VIN to a supply voltage between 2.7V and 18V.", 7 EP (power) "The thermal pad should be soldered to the analog ground plane. If possible, use thermal via to connect to ground plane for ideal power dissipation."

## TPS61165DBVR
designator U?
High Brightness White LED Driver, 3 to 18 V, -40 to 85 degC, 6-pin SOT23 (DBV6), Green (RoHS & no Sb/Br); Manufacturer: Texas Instruments; PartNumber: TPS61165DBVR; Dimming: TRUE; Iq(Typ)(mA): 1.5; Rating: Catalog; Switching Frequency(Max)(kHz): 1200; Topology: Boost; Vin(Max)(V): 18; Vin(Min)(V): 3; DatasheetVersion: SLVS790B; PackageVersion: 4073253-5/K; PackageReference: DBV6; PackageDescription: 6-Pin Plastic Small Outline, Body 1.60 × 2.90 mm, Pitch 0.95 mm; Supplier 1: Digi-Key; Supplier Part Number 1: 296-27597-2-ND; Supplier 2: Digi-Key; Supplier Part Number 2: 296-27597-1-ND; Supplier 3: Digi-Key; Supplier Part Number 3: 296-27597-6-ND; Supplier 4: Newark; Supplier Part Number 4: 79R8563; Supplier 5: Mouser; Supplier Part Number 5: 595-TPS61165DBVR; Eco-Plan: Green (RoHS & no Sb/Br); SubFamily: White LED Driver; Synchronous Rectification: TRUE; Mounting Technology: Surface Mount; Code_JEDEC: MO-178; ComponentLink1Description: Manufacturer URL; ComponentLink1URL: http://www.ti.com/; ComponentLink2Description: Datasheet; ComponentLink2URL: http://www.ti.com/general/docs/lit/getliterature.tsp?genericPartNumber=TPS61165&fileType=pdf; ComponentLink3Description: Package Specification; ComponentLink3URL: http://www.ti.com/litv/pdf/mpds026h
footprint TI-DBV6_N (SOT-23, 6-Leads, Body 2.90x1.60mm, Pitch 0.95mm, IPC Medium Density)
footprint TI-DBV6_L (SOT-23, 6-Leads, Body 2.90x1.60mm, Pitch 0.95mm, IPC High Density)
footprint TI-DBV6_M (SOT-23, 6-Leads, Body 2.90x1.60mm, Pitch 0.95mm, IPC Low Density)
pins: 1 VIN (power) "The input supply pin for the IC. Connect VIN to a supply voltage between 3V and 18V.", 2 CTRL (in) "Control pin of the boost converter. It is a multi-functional pin which can be used for enable control, PWM and digital dimming.", 3 SW (power) "This is the switching node of the IC. Connect the switched side of the inductor to SW. This pin is also used to sense the output voltage for open LED protection.", 4 GND (power) "Ground", 5 COMP "Output of the transconductance error amplifier. Connect an external capacitor to this pin to compensate the converter.", 6 FB (in) "Feedback pin for current. Connect the sense resistor from FB to GND."